# EAGLE library part MC68040RC (library micro-mc68000)
68xxx PROCESSOR
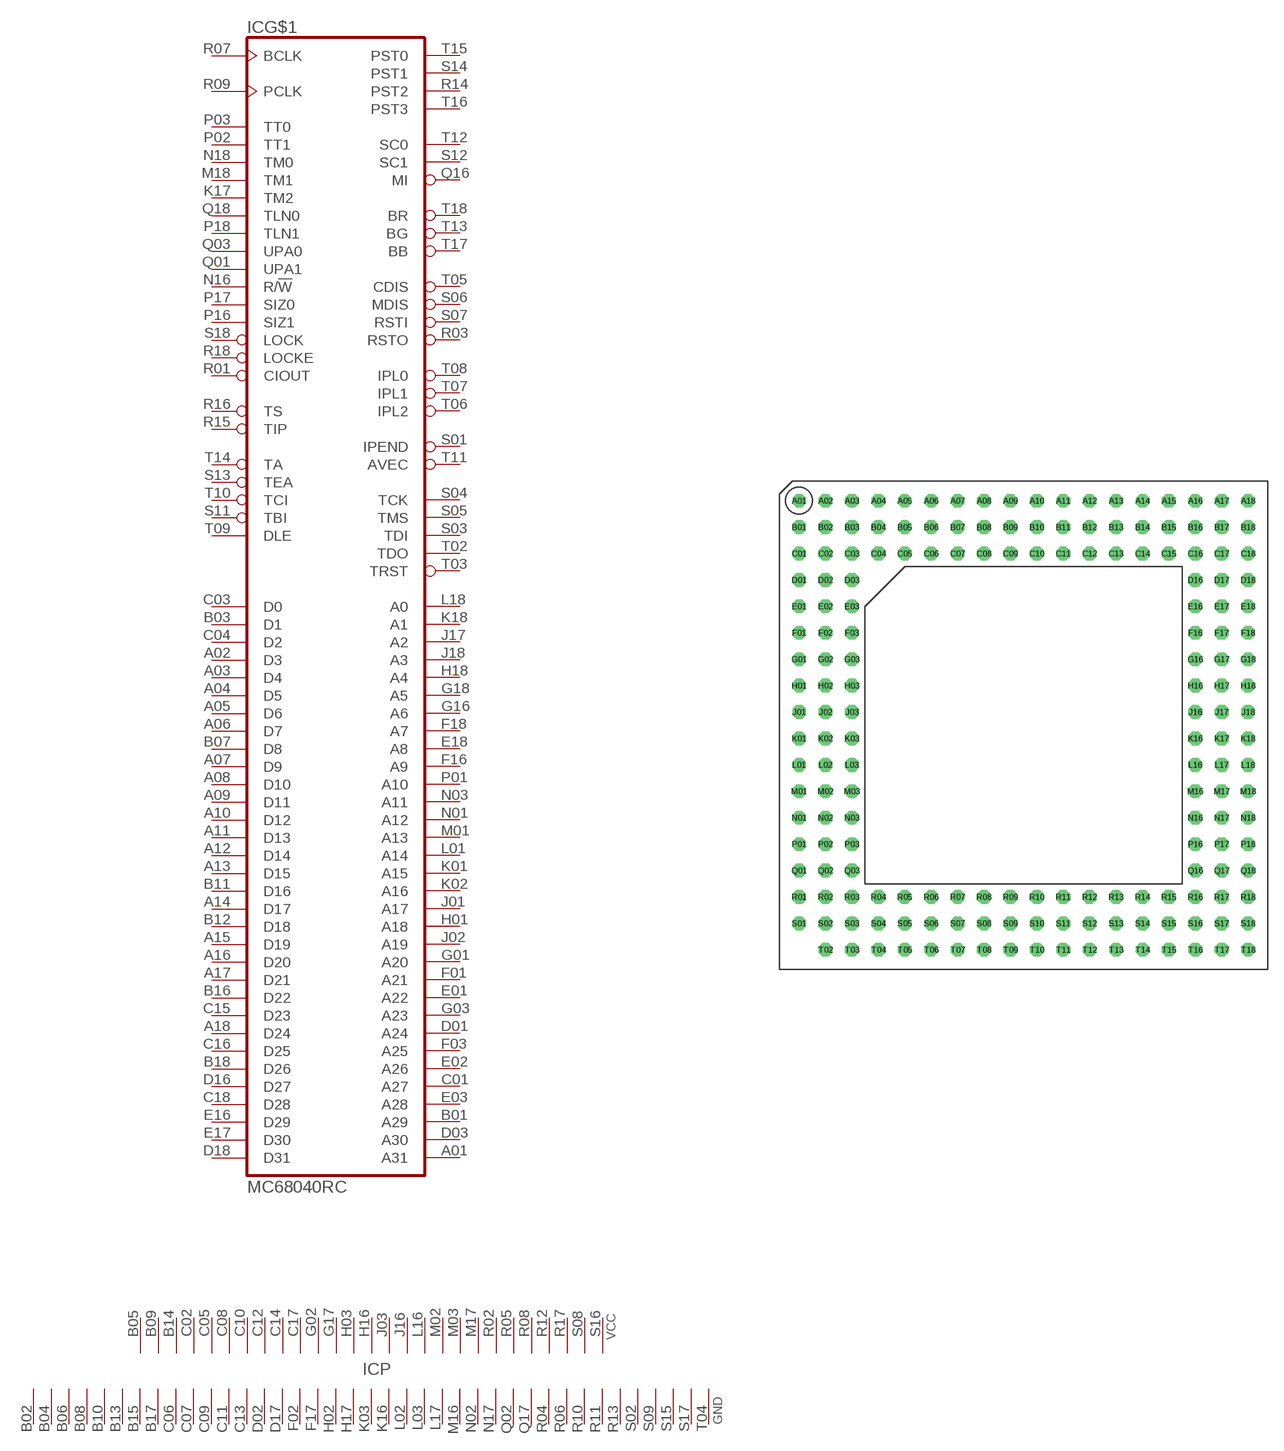
[diagram p4: symbol with the pads of MPGA179; footprint MPGA179]

Designator prefix IC; gates G$1=68040 P=27PW39GN

## MC68040RC (MF: MOTOROLA; MPN: MC68040RC40A; OC_FARNELL: 1579784; OC_NEWARK: 24C6756)  [MPGA179]
A01  G$1:A31  out
A02  G$1:D3
A03  G$1:D4
A04  G$1:D5
A05  G$1:D6
A06  G$1:D7
A07  G$1:D9
A08  G$1:D10
A09  G$1:D11
A10  G$1:D12
A11  G$1:D13
A12  G$1:D14
A13  G$1:D15
A14  G$1:D17
A15  G$1:D19
A16  G$1:D20
A17  G$1:D21
A18  G$1:D24
B01  G$1:A29  out
B02  P:GND  pwr
B03  G$1:D1
B04  P:GND  pwr
B05  P:VCC  pwr
B06  P:GND  pwr
B07  G$1:D8
B08  P:GND  pwr
B09  P:VCC  pwr
B10  P:GND  pwr
B11  G$1:D16
B12  G$1:D18
B13  P:GND  pwr
B14  P:VCC  pwr
B15  P:GND  pwr
B16  G$1:D22
B17  P:GND  pwr
B18  G$1:D26
C01  G$1:A27  out
C02  P:VCC  pwr
C03  G$1:D0
C04  G$1:D2
C05  P:VCC  pwr
C06  P:GND  pwr
C07  P:GND  pwr
C08  P:VCC  pwr
C09  P:GND  pwr
C10  P:VCC  pwr
C11  P:GND  pwr
C12  P:VCC  pwr
C13  P:GND  pwr
C14  P:VCC  pwr
C15  G$1:D23
C16  G$1:D25
C17  P:VCC  pwr
C18  G$1:D28
D01  G$1:A24  out
D02  P:GND  pwr
D03  G$1:A30  out
D16  G$1:D27
D17  P:GND  pwr
D18  G$1:D31
E01  G$1:A22  out
E02  G$1:A26  out
E03  G$1:A28  out
E16  G$1:D29
E17  G$1:D30
E18  G$1:A8  out
F01  G$1:A21  out
F02  P:GND  pwr
F03  G$1:A25  out
F16  G$1:A9  out
F17  P:GND  pwr
F18  G$1:A7  out
G01  G$1:A20  out
G02  P:VCC  pwr
G03  G$1:A23  out
G16  G$1:A6  out
G17  P:VCC  pwr
G18  G$1:A5  out
H01  G$1:A18  out
H02  P:GND  pwr
H03  P:VCC  pwr
H16  P:VCC  pwr
H17  P:GND  pwr
H18  G$1:A4  out
J01  G$1:A17  out
J02  G$1:A19  out
J03  P:VCC  pwr
J16  P:VCC  pwr
J17  G$1:A2  out
J18  G$1:A3  out
K01  G$1:A15  out
K02  G$1:A16  out
K03  P:GND  pwr
K16  P:GND  pwr
K17  G$1:TM2  out
K18  G$1:A1  out
L01  G$1:A14  out
L02  P:GND  pwr
L03  P:GND  pwr
L16  P:VCC  pwr
L17  P:GND  pwr
L18  G$1:A0  out
M01  G$1:A13  out
M02  P:VCC  pwr
M03  P:VCC  pwr
M16  P:GND  pwr
M17  P:VCC  pwr
M18  G$1:TM1  out
N01  G$1:A12  out
N02  P:GND  pwr
N03  G$1:A11  out
N16  G$1:R/!W
N17  P:GND  pwr
N18  G$1:TM0  out
P01  G$1:A10  out
P02  G$1:TT1
P03  G$1:TT0
P16  G$1:SIZ1
P17  G$1:SIZ0
P18  G$1:TLN1  out
Q01  G$1:UPA1  out
Q02  P:GND  pwr
Q03  G$1:UPA0  out
Q16  G$1:MI  out
Q17  P:GND  pwr
Q18  G$1:TLN0  out
R01  G$1:CIOUT  out
R02  P:VCC  pwr
R03  G$1:RSTO  out
R04  P:GND  pwr
R05  P:VCC  pwr
R06  P:GND  pwr
R07  G$1:BCLK  in
R08  P:VCC  pwr
R09  G$1:PCLK  in
R10  P:GND  pwr
R11  P:GND  pwr
R12  P:VCC  pwr
R13  P:GND  pwr
R14  G$1:PST2  out
R15  G$1:TIP  out
R16  G$1:TS
R17  P:VCC  pwr
R18  G$1:LOCKE  out
S01  G$1:IPEND  out
S02  P:GND  pwr
S03  G$1:TDI  in
S04  G$1:TCK  in
S05  G$1:TMS  in
S06  G$1:MDIS  in
S07  G$1:RSTI  in
S08  P:VCC  pwr
S09  P:GND  pwr
S11  G$1:TBI  in
S12  G$1:SC1  in
S13  G$1:TEA  in
S14  G$1:PST1  out
S15  P:GND  pwr
S16  P:VCC  pwr
S17  P:GND  pwr
S18  G$1:LOCK  out
T02  G$1:TDO  out
T03  G$1:TRST  in
T04  P:GND  pwr
T05  G$1:CDIS  in
T06  G$1:IPL2  in
T07  G$1:IPL1  in
T08  G$1:IPL0  in
T09  G$1:DLE  in
T10  G$1:TCI  in
T11  G$1:AVEC  in
T12  G$1:SC0  in
T13  G$1:BG  in
T14  G$1:TA
T15  G$1:PST0  out
T16  G$1:PST3  out
T17  G$1:BB
T18  G$1:BR  out

## Footprint MPGA179 (pad centres in mm)
micro Ball Grid Array
drill 0.813 octagon: A01 -21.59,21.59; A02 -19.05,21.59; A03 -16.51,21.59; A04 -13.97,21.59; A05 -11.43,21.59; A06 -8.89,21.59; A07 -6.35,21.59; A08 -3.81,21.59; A09 -1.27,21.59; A10 1.27,21.59; A11 3.81,21.59; A12 6.35,21.59; A13 8.89,21.59; A14 11.43,21.59; A15 13.97,21.59; A16 16.51,21.59; A17 19.05,21.59; A18 21.59,21.59; B01 -21.59,19.05; B02 -19.05,19.05; B03 -16.51,19.05; B04 -13.97,19.05; B05 -11.43,19.05; B06 -8.89,19.05; B07 -6.35,19.05; B08 -3.81,19.05; B09 -1.27,19.05; B10 1.27,19.05; B11 3.81,19.05; B12 6.35,19.05; B13 8.89,19.05; B14 11.43,19.05; B15 13.97,19.05; B16 16.51,19.05; B17 19.05,19.05; B18 21.59,19.05; C01 -21.59,16.51; C02 -19.05,16.51; C03 -16.51,16.51; C04 -13.97,16.51; C05 -11.43,16.51; C06 -8.89,16.51; C07 -6.35,16.51; C08 -3.81,16.51; C09 -1.27,16.51; C10 1.27,16.51; C11 3.81,16.51; C12 6.35,16.51; C13 8.89,16.51; C14 11.43,16.51; C15 13.97,16.51; C16 16.51,16.51; C17 19.05,16.51; C18 21.59,16.51; D01 -21.59,13.97; D02 -19.05,13.97; D03 -16.51,13.97; D16 16.51,13.97; D17 19.05,13.97; D18 21.59,13.97; E01 -21.59,11.43; E02 -19.05,11.43; E03 -16.51,11.43; E16 16.51,11.43; E17 19.05,11.43; E18 21.59,11.43; F01 -21.59,8.89; F02 -19.05,8.89; F03 -16.51,8.89; F16 16.51,8.89; F17 19.05,8.89; F18 21.59,8.89; G01 -21.59,6.35; G02 -19.05,6.35; G03 -16.51,6.35; G16 16.51,6.35; G17 19.05,6.35; G18 21.59,6.35; H01 -21.59,3.81; H02 -19.05,3.81; H03 -16.51,3.81; H16 16.51,3.81; H17 19.05,3.81; H18 21.59,3.81; J01 -21.59,1.27; J02 -19.05,1.27; J03 -16.51,1.27; J16 16.51,1.27; J17 19.05,1.27; J18 21.59,1.27; K01 -21.59,-1.27; K02 -19.05,-1.27; K03 -16.51,-1.27; K16 16.51,-1.27; K17 19.05,-1.27; K18 21.59,-1.27; L01 -21.59,-3.81; L02 -19.05,-3.81; L03 -16.51,-3.81; L16 16.51,-3.81; L17 19.05,-3.81; L18 21.59,-3.81; M01 -21.59,-6.35; M02 -19.05,-6.35; M03 -16.51,-6.35; M16 16.51,-6.35; M17 19.05,-6.35; M18 21.59,-6.35; N01 -21.59,-8.89; N02 -19.05,-8.89; N03 -16.51,-8.89; N16 16.51,-8.89; N17 19.05,-8.89; N18 21.59,-8.89; P01 -21.59,-11.43; P02 -19.05,-11.43; P03 -16.51,-11.43; P16 16.51,-11.43; P17 19.05,-11.43; P18 21.59,-11.43; Q01 -21.59,-13.97; Q02 -19.05,-13.97; Q03 -16.51,-13.97; Q16 16.51,-13.97; Q17 19.05,-13.97; Q18 21.59,-13.97; R01 -21.59,-16.51; R02 -19.05,-16.51; R03 -16.51,-16.51; R04 -13.97,-16.51; R05 -11.43,-16.51; R06 -8.89,-16.51; R07 -6.35,-16.51; R08 -3.81,-16.51; R09 -1.27,-16.51; R10 1.27,-16.51; R11 3.81,-16.51; R12 6.35,-16.51; R13 8.89,-16.51; R14 11.43,-16.51; R15 13.97,-16.51; R16 16.51,-16.51; R17 19.05,-16.51; R18 21.59,-16.51; S01 -21.59,-19.05; S02 -19.05,-19.05; S03 -16.51,-19.05; S04 -13.97,-19.05; S05 -11.43,-19.05; S06 -8.89,-19.05; S07 -6.35,-19.05; S08 -3.81,-19.05; S09 -1.27,-19.05; S10 1.27,-19.05; S11 3.81,-19.05; S12 6.35,-19.05; S13 8.89,-19.05; S14 11.43,-19.05; S15 13.97,-19.05; S16 16.51,-19.05; S17 19.05,-19.05; S18 21.59,-19.05; T02 -19.05,-21.59; T03 -16.51,-21.59; T04 -13.97,-21.59; T05 -11.43,-21.59; T06 -8.89,-21.59; T07 -6.35,-21.59; T08 -3.81,-21.59; T09 -1.27,-21.59; T10 1.27,-21.59; T11 3.81,-21.59; T12 6.35,-21.59; T13 8.89,-21.59; T14 11.43,-21.59; T15 13.97,-21.59; T16 16.51,-21.59; T17 19.05,-21.59; T18 21.59,-21.59